# Altium integrated library Maxim Digital Potentiometers.IntLib: 1045 symbols (part 20 of 42)
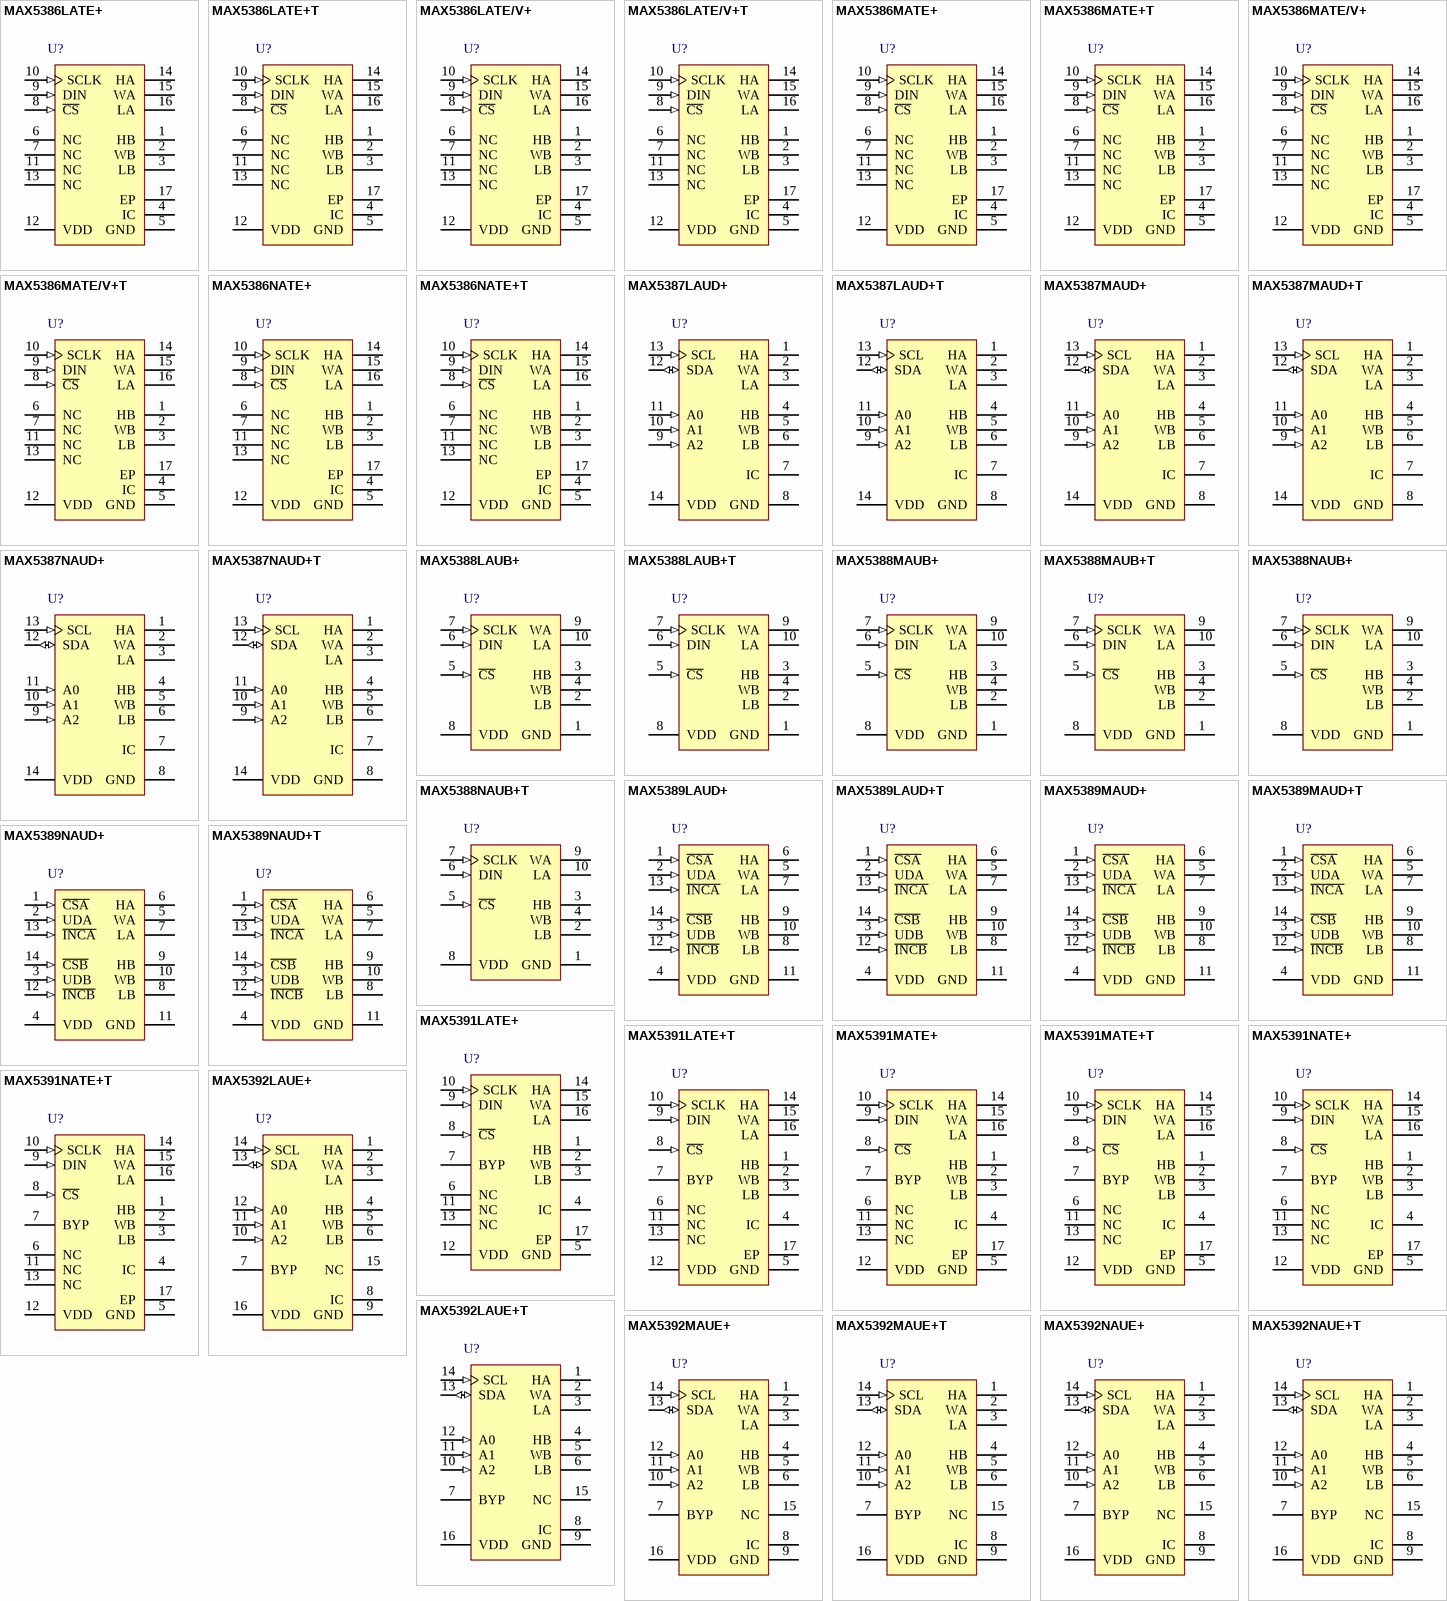
[diagram p48: symbols MAX5386LATE+ to MAX5392NAUE+T]

## MAX5389NAUD+T
designator U?
Dual, Digital Potentiometer with Up/Down Control Interface, Volatile, Linear Taper, 256 Steps, -40 to 125 degC, 14-pin TSSOP (U14+1), Pb-Free, Tape and Reel; PartNumber: MAX5389NAUD+T; DatasheetVersion: Rev. 2; PackageVersion: Rev. L, 07/2010; PackageReference: U14+1; PackageDescription: 14-Pin Thin Shrink Small-Outline Package (U14+1), Body 5 x 4.4 mm, Pitch 0.65 mm; Supplier 1: Digi-Key; Supplier Part Number 1: MAX5389NAUD+T-ND; Supplier 2: Mouser; Supplier Part Number 2: 700-MAX5389NAUD+T; Applications: Low-Voltage Battery Applications, Portable Consumer; Control Interface: Up/Down; Mounting Technology: Surface Mount; Code_JEDEC: MO-153; ComponentLink1Description: Manufacturer URL; ComponentLink1URL: http://www.maximintegrated.com/; ComponentLink2Description: Datasheet; ComponentLink2URL: http://datasheets.maximintegrated.com/en/ds/MAX5389.pdf; ComponentLink3Description: Package Specification; ComponentLink3URL: http://pdfserv.maximintegrated.com/package_dwgs/21-0066.PDF
footprint MAXM-U14+1_N (SOP, 14-Leads, Body 5x4.4mm, Pitch 0.65mm, IPC Medium Density)
footprint MAXM-U14+1_L (SOP, 14-Leads, Body 5x4.4mm, Pitch 0.65mm, IPC High Density)
footprint MAXM-U14+1_M (SOP, 14-Leads, Body 5x4.4mm, Pitch 0.65mm, IPC Low Density)
pins: 1 ~{CSA} (in) "Active-Low Register A Chip-Select Input. Drive C\S\A\ low to change wiper position WA through I\N\C\A\ and UDA.", 2 UDA (in) "Register A Up/Down Control Input. With UDA low, a high-to-low transition at I\N\C\A\ decrements the WA position towards LA. With UDA high, a high-to-low transition at I\N\C\A\ increments WA position toward HA", 3 UDB (in) "Register B Up/Down Control Input. With UDB low, a high-to-low transition at I\N\C\B\ decrements the WB position towards LB. With UDB high, a high-to-low transition at I\N\C\B\ increments WB position toward HB.", 4 VDD (power) "Power-Supply Input. Bypass VDD to GND with a 0.1uF capacitor close to the device.", 5 WA "Resistor A Wiper Terminal", 6 HA "Resistor A High Terminal. The voltage at HA can be higher or lower than the voltage at LA. Current can flow into or out of HA.", 7 LA "Resistor A Low Terminal. The voltage at LA can be higher or lower than the voltage at HA. Current can flow into or out of LA.", 8 LB "Resistor B Low Terminal. The voltage at LB can be higher or lower than the voltage at HB. Current can flow into or out of LB", 9 HB "Resistor B High Terminal. The voltage at HB can be higher or lower than the voltage at LB. Current can flow into or out of HB.", 10 WB "Resistor B Wiper Terminal", 11 GND (power) "Ground", 12 ~{INCB} (in) "Register B Wiper Increment Control Input. With UDB low, a high-to-low transition at I\N\C\B\ decrements the WB position towards LB. With UDB high, a high-to-low transition at I\N\C\B\ increments WB position toward HB.", 13 ~{INCA} (in) "Register A Wiper Increment Control Input. With UDA low, a high-to-low transition at I\N\C\A\ decrements the WA position towards LA. With UDA high, a high-to-low transition at I\N\C\A\ increments WA position toward HA.", 14 ~{CSB} (in) "Active-Low Register B Chip-Select Input. Drive C\S\B\ low to change wiper position WA through I\N\C\B\ and UDB."

## MAX5391LATE+
designator U?
Dual, Low-Voltage Linear Taper Digital Potentiometer with 3-Wire Serial SPI Control Interface, Volatile, Linear Taper, 256 Steps, -40 to 125 degC, 16-pin TQFN (T1633+5), Pb-Free; PartNumber: MAX5391LATE+; DatasheetVersion: Rev. 2; PackageVersion: Rev. L, 04/2012; PackageReference: T1633+5; PackageDescription: 16-Pin Thin Quad Flatpack, No Leads (T1633+5), Body 3 x 3 mm, Pitch 0.5 mm; Supplier 1: Digi-Key; Supplier Part Number 1: MAX5391LATE+-ND; Supplier 2: Farnell; Supplier Part Number 2: 1811333; Supplier 3: Mouser; Supplier Part Number 3: 700-MAX5391LATE+; Applications: Low-Voltage Battery Applications, Portable Consumer; Control Interface: 3-Wire Serial SPI; Mounting Technology: Surface Mount; Code_JEDEC: MO220; ComponentLink1Description: Manufacturer URL; ComponentLink1URL: http://www.maximintegrated.com/; ComponentLink2Description: Datasheet; ComponentLink2URL: http://datasheets.maximintegrated.com/en/ds/MAX5391-MAX5393.pdf; ComponentLink3Description: Package Specification; ComponentLink3URL: http://pdfserv.maximintegrated.com/package_dwgs/21-0136.PDF
footprint MAXM-T1633+5_N (QFN, 16-Leads, Body 3x3mm, Pitch 0.5mm, Thermal Pad 1.1x1.1mm, IPC Medium Density)
footprint MAXM-T1633+5_L (QFN, 16-Leads, Body 3x3mm, Pitch 0.5mm, Thermal Pad 1.1x1.1mm, IPC High Density)
footprint MAXM-T1633+5_M (QFN, 16-Leads, Body 3x3mm, Pitch 0.5mm, Thermal Pad 1.1x1.1mm, IPC Low Density)
pins: 1 HB "Resistor B High Terminal. The voltage at HB can be higher or lower than the voltage at LB. Current can flow into or out of HB.", 2 WB "Resistor B Wiper Terminal", 3 LB "Resistor B Low Terminal. The voltage at LB can be higher or lower than the voltage at HB.Current can flow into or out of LB.", 4 IC (power) "Internally Connected. Connect to GND.", 5 GND (power) "Ground", 6 NC "No Connection. Not internally connected.", 7 BYP "Internal Power-Supply Bypass. For additional charge-pump filtering, bypass to GND with a capacitor close to the device.", 8 ~{CS} (in) "Active-Low Chip-Select Input", 9 DIN (in) "Serial-Interface Data Input", 10 SCLK (in) "Serial-Interface Clock Input", 11 NC "No Connection. Not internally connected.", 12 VDD (power) "Power-Supply Input. Bypass VDD to GND with a 0.1FF capacitor close to the device.", 13 NC "No Connection. Not internally connected.", 14 HA "Resistor A High Terminal. The voltage at HA can be higher or lower than the voltage at LA. Current can flow into or out of HA.", 15 WA "Resistor A Wiper Terminal", 16 LA "Resistor A Low Terminal. The voltage at LA can be higher or lower than the voltage at HA. Current can flow into or out of LA.", 17 EP (power) "Exposed Pad. Connect to GND."

## MAX5391LATE+T
designator U?
Dual Low-Voltage Linear Taper Digital Potentiometer with 3-Wire Serial SPI Control Interface, Volatile, Linear Taper, 256 Steps, -40 to 125 degC, 16-pin TQFN (T1633+5), Pb-Free, Tape and Reel; PartNumber: MAX5391LATE+T; DatasheetVersion: Rev. 2; PackageVersion: Rev. L, 04/2012; PackageReference: T1633+5; PackageDescription: 16-Pin Thin Quad Flatpack, No Leads (T1633+5), Body 3 x 3 mm, Pitch 0.5 mm; Supplier 1: Digi-Key; Supplier Part Number 1: MAX5391LATE+TTR-ND; Supplier 2: Digi-Key; Supplier Part Number 2: MAX5391LATE+TCT-ND; Supplier 3: Digi-Key; Supplier Part Number 3: MAX5391LATE+TDKR-ND; Supplier 4: Newark; Supplier Part Number 4: 69R7364; Supplier 5: Mouser; Supplier Part Number 5: 700-MAX5391LATE+T; Applications: Low-Voltage Battery Applications, Portable Consumer; Control Interface: 3-Wire Serial SPI; Mounting Technology: Surface Mount; Code_JEDEC: MO220; ComponentLink1Description: Manufacturer URL; ComponentLink1URL: http://www.maximintegrated.com/; ComponentLink2Description: Datasheet; ComponentLink2URL: http://datasheets.maximintegrated.com/en/ds/MAX5391-MAX5393.pdf; ComponentLink3Description: Package Specification; ComponentLink3URL: http://pdfserv.maximintegrated.com/package_dwgs/21-0136.PDF
footprint MAXM-T1633+5_N (QFN, 16-Leads, Body 3x3mm, Pitch 0.5mm, Thermal Pad 1.1x1.1mm, IPC Medium Density)
footprint MAXM-T1633+5_L (QFN, 16-Leads, Body 3x3mm, Pitch 0.5mm, Thermal Pad 1.1x1.1mm, IPC High Density)
footprint MAXM-T1633+5_M (QFN, 16-Leads, Body 3x3mm, Pitch 0.5mm, Thermal Pad 1.1x1.1mm, IPC Low Density)
pins: 1 HB "Resistor B High Terminal. The voltage at HB can be higher or lower than the voltage at LB. Current can flow into or out of HB.", 2 WB "Resistor B Wiper Terminal", 3 LB "Resistor B Low Terminal. The voltage at LB can be higher or lower than the voltage at HB.Current can flow into or out of LB.", 4 IC (power) "Internally Connected. Connect to GND.", 5 GND (power) "Ground", 6 NC "No Connection. Not internally connected.", 7 BYP "Internal Power-Supply Bypass. For additional charge-pump filtering, bypass to GND with a capacitor close to the device.", 8 ~{CS} (in) "Active-Low Chip-Select Input", 9 DIN (in) "Serial-Interface Data Input", 10 SCLK (in) "Serial-Interface Clock Input", 11 NC "No Connection. Not internally connected.", 12 VDD (power) "Power-Supply Input. Bypass VDD to GND with a 0.1FF capacitor close to the device.", 13 NC "No Connection. Not internally connected.", 14 HA "Resistor A High Terminal. The voltage at HA can be higher or lower than the voltage at LA. Current can flow into or out of HA.", 15 WA "Resistor A Wiper Terminal", 16 LA "Resistor A Low Terminal. The voltage at LA can be higher or lower than the voltage at HA. Current can flow into or out of LA.", 17 EP (power) "Exposed Pad. Connect to GND."

## MAX5391MATE+
designator U?
Dual Low-Voltage Linear Taper Digital Potentiometer with 3-Wire Serial SPI Control Interface, Volatile, Linear Taper, 256 Steps, -40 to 125 degC, 16-pin TQFN (T1633+5), Pb-Free; PartNumber: MAX5391MATE+; DatasheetVersion: Rev. 2; PackageVersion: Rev. L, 04/2012; PackageReference: T1633+5; PackageDescription: 16-Pin Thin Quad Flatpack, No Leads (T1633+5), Body 3 x 3 mm, Pitch 0.5 mm; Supplier 1: Digi-Key; Supplier Part Number 1: MAX5391MATE+-ND; Supplier 2: Farnell; Supplier Part Number 2: 1811334; Supplier 3: Mouser; Supplier Part Number 3: 700-MAX5391MATE+; Applications: Low-Voltage Battery Applications, Portable Consumer; Control Interface: 3-Wire Serial SPI; Mounting Technology: Surface Mount; Code_JEDEC: MO220; ComponentLink1Description: Manufacturer URL; ComponentLink1URL: http://www.maximintegrated.com/; ComponentLink2Description: Datasheet; ComponentLink2URL: http://datasheets.maximintegrated.com/en/ds/MAX5391-MAX5393.pdf; ComponentLink3Description: Package Specification; ComponentLink3URL: http://pdfserv.maximintegrated.com/package_dwgs/21-0136.PDF
footprint MAXM-T1633+5_N (QFN, 16-Leads, Body 3x3mm, Pitch 0.5mm, Thermal Pad 1.1x1.1mm, IPC Medium Density)
footprint MAXM-T1633+5_L (QFN, 16-Leads, Body 3x3mm, Pitch 0.5mm, Thermal Pad 1.1x1.1mm, IPC High Density)
footprint MAXM-T1633+5_M (QFN, 16-Leads, Body 3x3mm, Pitch 0.5mm, Thermal Pad 1.1x1.1mm, IPC Low Density)
pins: 1 HB "Resistor B High Terminal. The voltage at HB can be higher or lower than the voltage at LB. Current can flow into or out of HB.", 2 WB "Resistor B Wiper Terminal", 3 LB "Resistor B Low Terminal. The voltage at LB can be higher or lower than the voltage at HB.Current can flow into or out of LB.", 4 IC (power) "Internally Connected. Connect to GND.", 5 GND (power) "Ground", 6 NC "No Connection. Not internally connected.", 7 BYP "Internal Power-Supply Bypass. For additional charge-pump filtering, bypass to GND with a capacitor close to the device.", 8 ~{CS} (in) "Active-Low Chip-Select Input", 9 DIN (in) "Serial-Interface Data Input", 10 SCLK (in) "Serial-Interface Clock Input", 11 NC "No Connection. Not internally connected.", 12 VDD (power) "Power-Supply Input. Bypass VDD to GND with a 0.1FF capacitor close to the device.", 13 NC "No Connection. Not internally connected.", 14 HA "Resistor A High Terminal. The voltage at HA can be higher or lower than the voltage at LA. Current can flow into or out of HA.", 15 WA "Resistor A Wiper Terminal", 16 LA "Resistor A Low Terminal. The voltage at LA can be higher or lower than the voltage at HA. Current can flow into or out of LA.", 17 EP (power) "Exposed Pad. Connect to GND."

## MAX5391MATE+T
designator U?
Dual Low-Voltage Linear Taper Digital Potentiometer with 3-Wire Serial SPI Control Interface, Volatile, Linear Taper, 256 Steps, -40 to 125 degC, 16-pin TQFN (T1633+5), Pb-Free, Tape and Reel; PartNumber: MAX5391MATE+T; DatasheetVersion: Rev. 2; PackageVersion: Rev. L, 04/2012; PackageReference: T1633+5; PackageDescription: 16-Pin Thin Quad Flatpack, No Leads (T1633+5), Body 3 x 3 mm, Pitch 0.5 mm; Supplier 1: Digi-Key; Supplier Part Number 1: MAX5391MATE+TTR-ND; Supplier 2: Digi-Key; Supplier Part Number 2: MAX5391MATE+TCT-ND; Supplier 3: Digi-Key; Supplier Part Number 3: MAX5391MATE+TDKR-ND; Supplier 4: Newark; Supplier Part Number 4: 69R7365; Supplier 5: Mouser; Supplier Part Number 5: 700-MAX5391MATE+T; Applications: Low-Voltage Battery Applications, Portable Consumer; Control Interface: 3-Wire Serial SPI; Mounting Technology: Surface Mount; Code_JEDEC: MO220; ComponentLink1Description: Manufacturer URL; ComponentLink1URL: http://www.maximintegrated.com/; ComponentLink2Description: Datasheet; ComponentLink2URL: http://datasheets.maximintegrated.com/en/ds/MAX5391-MAX5393.pdf; ComponentLink3Description: Package Specification; ComponentLink3URL: http://pdfserv.maximintegrated.com/package_dwgs/21-0136.PDF
footprint MAXM-T1633+5_N (QFN, 16-Leads, Body 3x3mm, Pitch 0.5mm, Thermal Pad 1.1x1.1mm, IPC Medium Density)
footprint MAXM-T1633+5_L (QFN, 16-Leads, Body 3x3mm, Pitch 0.5mm, Thermal Pad 1.1x1.1mm, IPC High Density)
footprint MAXM-T1633+5_M (QFN, 16-Leads, Body 3x3mm, Pitch 0.5mm, Thermal Pad 1.1x1.1mm, IPC Low Density)
pins: 1 HB "Resistor B High Terminal. The voltage at HB can be higher or lower than the voltage at LB. Current can flow into or out of HB.", 2 WB "Resistor B Wiper Terminal", 3 LB "Resistor B Low Terminal. The voltage at LB can be higher or lower than the voltage at HB.Current can flow into or out of LB.", 4 IC (power) "Internally Connected. Connect to GND.", 5 GND (power) "Ground", 6 NC "No Connection. Not internally connected.", 7 BYP "Internal Power-Supply Bypass. For additional charge-pump filtering, bypass to GND with a capacitor close to the device.", 8 ~{CS} (in) "Active-Low Chip-Select Input", 9 DIN (in) "Serial-Interface Data Input", 10 SCLK (in) "Serial-Interface Clock Input", 11 NC "No Connection. Not internally connected.", 12 VDD (power) "Power-Supply Input. Bypass VDD to GND with a 0.1FF capacitor close to the device.", 13 NC "No Connection. Not internally connected.", 14 HA "Resistor A High Terminal. The voltage at HA can be higher or lower than the voltage at LA. Current can flow into or out of HA.", 15 WA "Resistor A Wiper Terminal", 16 LA "Resistor A Low Terminal. The voltage at LA can be higher or lower than the voltage at HA. Current can flow into or out of LA.", 17 EP (power) "Exposed Pad. Connect to GND."

## MAX5391NATE+
designator U?
Dual Low-Voltage Linear Taper Digital Potentiometer with 3-Wire Serial SPI Control Interface, Volatile, Linear Taper, 256 Steps, -40 to 125 degC, 16-pin TQFN (T1633+5), Pb-Free; PartNumber: MAX5391NATE+; DatasheetVersion: Rev. 2; PackageVersion: Rev. L, 04/2012; PackageReference: T1633+5; PackageDescription: 16-Pin Thin Quad Flatpack, No Leads (T1633+5), Body 3 x 3 mm, Pitch 0.5 mm; Supplier 1: Digi-Key; Supplier Part Number 1: MAX5391NATE+-ND; Supplier 2: Farnell; Supplier Part Number 2: 1811335; Supplier 3: Mouser; Supplier Part Number 3: 700-MAX5391NATE+; Applications: Low-Voltage Battery Applications, Portable Consumer; Control Interface: 3-Wire Serial SPI; Mounting Technology: Surface Mount; Code_JEDEC: MO220; ComponentLink1Description: Manufacturer URL; ComponentLink1URL: http://www.maximintegrated.com/; ComponentLink2Description: Datasheet; ComponentLink2URL: http://datasheets.maximintegrated.com/en/ds/MAX5391-MAX5393.pdf; ComponentLink3Description: Package Specification; ComponentLink3URL: http://pdfserv.maximintegrated.com/package_dwgs/21-0136.PDF
footprint MAXM-T1633+5_N (QFN, 16-Leads, Body 3x3mm, Pitch 0.5mm, Thermal Pad 1.1x1.1mm, IPC Medium Density)
footprint MAXM-T1633+5_L (QFN, 16-Leads, Body 3x3mm, Pitch 0.5mm, Thermal Pad 1.1x1.1mm, IPC High Density)
footprint MAXM-T1633+5_M (QFN, 16-Leads, Body 3x3mm, Pitch 0.5mm, Thermal Pad 1.1x1.1mm, IPC Low Density)
pins: 1 HB "Resistor B High Terminal. The voltage at HB can be higher or lower than the voltage at LB. Current can flow into or out of HB.", 2 WB "Resistor B Wiper Terminal", 3 LB "Resistor B Low Terminal. The voltage at LB can be higher or lower than the voltage at HB.Current can flow into or out of LB.", 4 IC (power) "Internally Connected. Connect to GND.", 5 GND (power) "Ground", 6 NC "No Connection. Not internally connected.", 7 BYP "Internal Power-Supply Bypass. For additional charge-pump filtering, bypass to GND with a capacitor close to the device.", 8 ~{CS} (in) "Active-Low Chip-Select Input", 9 DIN (in) "Serial-Interface Data Input", 10 SCLK (in) "Serial-Interface Clock Input", 11 NC "No Connection. Not internally connected.", 12 VDD (power) "Power-Supply Input. Bypass VDD to GND with a 0.1FF capacitor close to the device.", 13 NC "No Connection. Not internally connected.", 14 HA "Resistor A High Terminal. The voltage at HA can be higher or lower than the voltage at LA. Current can flow into or out of HA.", 15 WA "Resistor A Wiper Terminal", 16 LA "Resistor A Low Terminal. The voltage at LA can be higher or lower than the voltage at HA. Current can flow into or out of LA.", 17 EP (power) "Exposed Pad. Connect to GND."

## MAX5391NATE+T
designator U?
Dual Low-Voltage Linear Taper Digital Potentiometer with 3-Wire Serial SPI Control Interface, Volatile, Linear Taper, 256 Steps, -40 to 125 degC, 16-pin TQFN (T1633+5), Pb-Free, Tape and Reel; PartNumber: MAX5391NATE+T; DatasheetVersion: Rev. 2; PackageVersion: Rev. L, 04/2012; PackageReference: T1633+5; PackageDescription: 16-Pin Thin Quad Flatpack, No Leads (T1633+5), Body 3 x 3 mm, Pitch 0.5 mm; Supplier 1: Digi-Key; Supplier Part Number 1: MAX5391NATE+TTR-ND; Supplier 2: Digi-Key; Supplier Part Number 2: MAX5391NATE+TCT-ND; Supplier 3: Digi-Key; Supplier Part Number 3: MAX5391NATE+TDKR-ND; Supplier 4: Mouser; Supplier Part Number 4: 700-MAX5391NATE+T; Applications: Low-Voltage Battery Applications, Portable Consumer; Control Interface: 3-Wire Serial SPI; Mounting Technology: Surface Mount; Code_JEDEC: MO220; ComponentLink1Description: Manufacturer URL; ComponentLink1URL: http://www.maximintegrated.com/; ComponentLink2Description: Datasheet; ComponentLink2URL: http://datasheets.maximintegrated.com/en/ds/MAX5391-MAX5393.pdf; ComponentLink3Description: Package Specification; ComponentLink3URL: http://pdfserv.maximintegrated.com/package_dwgs/21-0136.PDF
footprint MAXM-T1633+5_N (QFN, 16-Leads, Body 3x3mm, Pitch 0.5mm, Thermal Pad 1.1x1.1mm, IPC Medium Density)
footprint MAXM-T1633+5_L (QFN, 16-Leads, Body 3x3mm, Pitch 0.5mm, Thermal Pad 1.1x1.1mm, IPC High Density)
footprint MAXM-T1633+5_M (QFN, 16-Leads, Body 3x3mm, Pitch 0.5mm, Thermal Pad 1.1x1.1mm, IPC Low Density)
pins: 1 HB "Resistor B High Terminal. The voltage at HB can be higher or lower than the voltage at LB. Current can flow into or out of HB.", 2 WB "Resistor B Wiper Terminal", 3 LB "Resistor B Low Terminal. The voltage at LB can be higher or lower than the voltage at HB.Current can flow into or out of LB.", 4 IC (power) "Internally Connected. Connect to GND.", 5 GND (power) "Ground", 6 NC "No Connection. Not internally connected.", 7 BYP "Internal Power-Supply Bypass. For additional charge-pump filtering, bypass to GND with a capacitor close to the device.", 8 ~{CS} (in) "Active-Low Chip-Select Input", 9 DIN (in) "Serial-Interface Data Input", 10 SCLK (in) "Serial-Interface Clock Input", 11 NC "No Connection. Not internally connected.", 12 VDD (power) "Power-Supply Input. Bypass VDD to GND with a 0.1FF capacitor close to the device.", 13 NC "No Connection. Not internally connected.", 14 HA "Resistor A High Terminal. The voltage at HA can be higher or lower than the voltage at LA. Current can flow into or out of HA.", 15 WA "Resistor A Wiper Terminal", 16 LA "Resistor A Low Terminal. The voltage at LA can be higher or lower than the voltage at HA. Current can flow into or out of LA.", 17 EP (power) "Exposed Pad. Connect to GND."

## MAX5392LAUE+
designator U?
Dual, Low-Voltage Digital Potentiometer with I2C Control Interface, Volatile, Linear Taper, 256 Steps, -40 to 125 degC, 16-pin TSSOP (U16+2), Pb-Free; PartNumber: MAX5392LAUE+; DatasheetVersion: Rev. 2; PackageVersion: Rev. L, 07/2010; PackageReference: U16+2; PackageDescription: 16-Pin Thin Shrink Small-Outline Package (U16+2), Body 5 x 4.4 mm, Pitch 0.65 mm; Supplier 1: Digi-Key; Supplier Part Number 1: MAX5392LAUE+-ND; Supplier 2: Farnell; Supplier Part Number 2: 1811336; Supplier 3: Newark; Supplier Part Number 3: 64R0241; Supplier 4: Mouser; Supplier Part Number 4: 700-MAX5392LAUE+; Applications: Low-Voltage Battery Applications, Portable Consumer; Control Interface: I2C; Mounting Technology: Surface Mount; Code_JEDEC: MO-153; ComponentLink1Description: Manufacturer URL; ComponentLink1URL: http://www.maximintegrated.com/; ComponentLink2Description: Datasheet; ComponentLink2URL: http://datasheets.maximintegrated.com/en/ds/MAX5392.pdf; ComponentLink3Description: Package Specification; ComponentLink3URL: http://pdfserv.maximintegrated.com/package_dwgs/21-0066.PDF
footprint MAXM-U16+2_N (SOP, 16-Leads, Body 5x4.4mm, Pitch 0.65mm, IPC Medium Density)
footprint MAXM-U16+2_L (SOP, 16-Leads, Body 5x4.4mm, Pitch 0.65mm, IPC High Density)
footprint MAXM-U16+2_M (SOP, 16-Leads, Body 5x4.4mm, Pitch 0.65mm, IPC Low Density)
pins: 1 HA "Resistor A High Terminal. The voltage at HA can be higher or lower than the voltage at LA. Current can flow into or out of HA.", 2 WA "Resistor A Wiper Terminal", 3 LA "Resistor A Low Terminal. The voltage at LA can be higher or lower than the voltage at HA. Current can flow into or out of LA.", 4 HB "Resistor B High Terminal. The voltage at HB can be higher or lower than the voltage at LB. Current can flow into or out of HB.", 5 WB "Resistor B Wiper Terminal", 6 LB "Resistor B Low Terminal. The voltage at LB can be higher or lower than the voltage at HB. Current can flow into or out of LB.", 7 BYP "Internal Power-Supply Bypass. For additional charge-pump filtering, bypass to GND with a capacitor close to the device.", 8 IC (power) "Internally Connected. Connect to GND.", 9 GND (power) "Ground", 10 A2 (in) "Address Input 2. Connect to VDD or GND.", 11 A1 (in) "Address Input 1. Connect to VDD or GND.", 12 A0 (in) "Address Input 0. Connect to VDD or GND.", 13 SDA (io) "I2C-Compatible Serial-Data Input/Output. A pullup resistor is required.", 14 SCL (in) "I2C-Compatible Serial-Clock Input. A pullup resistor is required.", 15 NC "No Connection. Not internally connected.", 16 VDD (power) "Power-Supply Input. Bypass VDD to GND with a 0.1uF capacitor close to the device."

## MAX5392LAUE+T
designator U?
Dual, Low-Voltage Digital Potentiometer with I2C Control Interface, Volatile, Linear Taper, 256 Steps, -40 to 125 degC, 16-pin TSSOP (U16+2), Pb-Free, Tape and Reel; PartNumber: MAX5392LAUE+T; DatasheetVersion: Rev. 2; PackageVersion: Rev. L, 07/2010; PackageReference: U16+2; PackageDescription: 16-Pin Thin Shrink Small-Outline Package (U16+2), Body 5 x 4.4 mm, Pitch 0.65 mm; Supplier 1: Digi-Key; Supplier Part Number 1: MAX5392LAUE+T-ND; Supplier 2: Mouser; Supplier Part Number 2: 700-MAX5392LAUE+T; Applications: Low-Voltage Battery Applications, Portable Consumer; Control Interface: I2C; Mounting Technology: Surface Mount; Code_JEDEC: MO-153; ComponentLink1Description: Manufacturer URL; ComponentLink1URL: http://www.maximintegrated.com/; ComponentLink2Description: Datasheet; ComponentLink2URL: http://datasheets.maximintegrated.com/en/ds/MAX5392.pdf; ComponentLink3Description: Package Specification; ComponentLink3URL: http://pdfserv.maximintegrated.com/package_dwgs/21-0066.PDF
footprint MAXM-U16+2_N (SOP, 16-Leads, Body 5x4.4mm, Pitch 0.65mm, IPC Medium Density)
footprint MAXM-U16+2_L (SOP, 16-Leads, Body 5x4.4mm, Pitch 0.65mm, IPC High Density)
footprint MAXM-U16+2_M (SOP, 16-Leads, Body 5x4.4mm, Pitch 0.65mm, IPC Low Density)
pins: 1 HA "Resistor A High Terminal. The voltage at HA can be higher or lower than the voltage at LA. Current can flow into or out of HA.", 2 WA "Resistor A Wiper Terminal", 3 LA "Resistor A Low Terminal. The voltage at LA can be higher or lower than the voltage at HA. Current can flow into or out of LA.", 4 HB "Resistor B High Terminal. The voltage at HB can be higher or lower than the voltage at LB. Current can flow into or out of HB.", 5 WB "Resistor B Wiper Terminal", 6 LB "Resistor B Low Terminal. The voltage at LB can be higher or lower than the voltage at HB. Current can flow into or out of LB.", 7 BYP "Internal Power-Supply Bypass. For additional charge-pump filtering, bypass to GND with a capacitor close to the device.", 8 IC (power) "Internally Connected. Connect to GND.", 9 GND (power) "Ground", 10 A2 (in) "Address Input 2. Connect to VDD or GND.", 11 A1 (in) "Address Input 1. Connect to VDD or GND.", 12 A0 (in) "Address Input 0. Connect to VDD or GND.", 13 SDA (io) "I2C-Compatible Serial-Data Input/Output. A pullup resistor is required.", 14 SCL (in) "I2C-Compatible Serial-Clock Input. A pullup resistor is required.", 15 NC "No Connection. Not internally connected.", 16 VDD (power) "Power-Supply Input. Bypass VDD to GND with a 0.1uF capacitor close to the device."

## MAX5392MAUE+
designator U?
Dual, Low-Voltage Digital Potentiometer with I2C Control Interface, Volatile, Linear Taper, 256 Steps, -40 to 125 degC, 16-pin TSSOP (U16+2), Pb-Free; PartNumber: MAX5392MAUE+; DatasheetVersion: Rev. 2; PackageVersion: Rev. L, 07/2010; PackageReference: U16+2; PackageDescription: 16-Pin Thin Shrink Small-Outline Package (U16+2), Body 5 x 4.4 mm, Pitch 0.65 mm; Supplier 1: Digi-Key; Supplier Part Number 1: MAX5392MAUE+-ND; Supplier 2: Farnell; Supplier Part Number 2: 1811337; Supplier 3: Newark; Supplier Part Number 3: 64R0243; Supplier 4: Mouser; Supplier Part Number 4: 700-MAX5392MAUE+; Applications: Low-Voltage Battery Applications, Portable Consumer; Control Interface: I2C; Mounting Technology: Surface Mount; Code_JEDEC: MO-153; ComponentLink1Description: Manufacturer URL; ComponentLink1URL: http://www.maximintegrated.com/; ComponentLink2Description: Datasheet; ComponentLink2URL: http://datasheets.maximintegrated.com/en/ds/MAX5392.pdf; ComponentLink3Description: Package Specification; ComponentLink3URL: http://pdfserv.maximintegrated.com/package_dwgs/21-0066.PDF
footprint MAXM-U16+2_N (SOP, 16-Leads, Body 5x4.4mm, Pitch 0.65mm, IPC Medium Density)
footprint MAXM-U16+2_L (SOP, 16-Leads, Body 5x4.4mm, Pitch 0.65mm, IPC High Density)
footprint MAXM-U16+2_M (SOP, 16-Leads, Body 5x4.4mm, Pitch 0.65mm, IPC Low Density)
pins: 1 HA "Resistor A High Terminal. The voltage at HA can be higher or lower than the voltage at LA. Current can flow into or out of HA.", 2 WA "Resistor A Wiper Terminal", 3 LA "Resistor A Low Terminal. The voltage at LA can be higher or lower than the voltage at HA. Current can flow into or out of LA.", 4 HB "Resistor B High Terminal. The voltage at HB can be higher or lower than the voltage at LB. Current can flow into or out of HB.", 5 WB "Resistor B Wiper Terminal", 6 LB "Resistor B Low Terminal. The voltage at LB can be higher or lower than the voltage at HB. Current can flow into or out of LB.", 7 BYP "Internal Power-Supply Bypass. For additional charge-pump filtering, bypass to GND with a capacitor close to the device.", 8 IC (power) "Internally Connected. Connect to GND.", 9 GND (power) "Ground", 10 A2 (in) "Address Input 2. Connect to VDD or GND.", 11 A1 (in) "Address Input 1. Connect to VDD or GND.", 12 A0 (in) "Address Input 0. Connect to VDD or GND.", 13 SDA (io) "I2C-Compatible Serial-Data Input/Output. A pullup resistor is required.", 14 SCL (in) "I2C-Compatible Serial-Clock Input. A pullup resistor is required.", 15 NC "No Connection. Not internally connected.", 16 VDD (power) "Power-Supply Input. Bypass VDD to GND with a 0.1uF capacitor close to the device."

## MAX5392MAUE+T
designator U?
Dual, Low-Voltage Digital Potentiometer with I2C Control Interface, Volatile, Linear Taper, 256 Steps, -40 to 125 degC, 16-pin TSSOP (U16+2), Pb-Free, Tape and Reel; PartNumber: MAX5392MAUE+T; DatasheetVersion: Rev. 2; PackageVersion: Rev. L, 07/2010; PackageReference: U16+2; PackageDescription: 16-Pin Thin Shrink Small-Outline Package (U16+2), Body 5 x 4.4 mm, Pitch 0.65 mm; Supplier 1: Digi-Key; Supplier Part Number 1: MAX5392MAUE+T-ND; Supplier 2: Mouser; Supplier Part Number 2: 700-MAX5392MAUE+T; Applications: Low-Voltage Battery Applications, Portable Consumer; Control Interface: I2C; Mounting Technology: Surface Mount; Code_JEDEC: MO-153; ComponentLink1Description: Manufacturer URL; ComponentLink1URL: http://www.maximintegrated.com/; ComponentLink2Description: Datasheet; ComponentLink2URL: http://datasheets.maximintegrated.com/en/ds/MAX5392.pdf; ComponentLink3Description: Package Specification; ComponentLink3URL: http://pdfserv.maximintegrated.com/package_dwgs/21-0066.PDF
footprint MAXM-U16+2_N (SOP, 16-Leads, Body 5x4.4mm, Pitch 0.65mm, IPC Medium Density)
footprint MAXM-U16+2_L (SOP, 16-Leads, Body 5x4.4mm, Pitch 0.65mm, IPC High Density)
footprint MAXM-U16+2_M (SOP, 16-Leads, Body 5x4.4mm, Pitch 0.65mm, IPC Low Density)
pins: 1 HA "Resistor A High Terminal. The voltage at HA can be higher or lower than the voltage at LA. Current can flow into or out of HA.", 2 WA "Resistor A Wiper Terminal", 3 LA "Resistor A Low Terminal. The voltage at LA can be higher or lower than the voltage at HA. Current can flow into or out of LA.", 4 HB "Resistor B High Terminal. The voltage at HB can be higher or lower than the voltage at LB. Current can flow into or out of HB.", 5 WB "Resistor B Wiper Terminal", 6 LB "Resistor B Low Terminal. The voltage at LB can be higher or lower than the voltage at HB. Current can flow into or out of LB.", 7 BYP "Internal Power-Supply Bypass. For additional charge-pump filtering, bypass to GND with a capacitor close to the device.", 8 IC (power) "Internally Connected. Connect to GND.", 9 GND (power) "Ground", 10 A2 (in) "Address Input 2. Connect to VDD or GND.", 11 A1 (in) "Address Input 1. Connect to VDD or GND.", 12 A0 (in) "Address Input 0. Connect to VDD or GND.", 13 SDA (io) "I2C-Compatible Serial-Data Input/Output. A pullup resistor is required.", 14 SCL (in) "I2C-Compatible Serial-Clock Input. A pullup resistor is required.", 15 NC "No Connection. Not internally connected.", 16 VDD (power) "Power-Supply Input. Bypass VDD to GND with a 0.1uF capacitor close to the device."

## MAX5392NAUE+
designator U?
Dual, Low-Voltage Digital Potentiometer with I2C Control Interface, Volatile, Linear Taper, 256 Steps, -40 to 125 degC, 16-pin TSSOP (U16+2), Pb-Free; PartNumber: MAX5392NAUE+; DatasheetVersion: Rev. 2; PackageVersion: Rev. L, 07/2010; PackageReference: U16+2; PackageDescription: 16-Pin Thin Shrink Small-Outline Package (U16+2), Body 5 x 4.4 mm, Pitch 0.65 mm; Supplier 1: Digi-Key; Supplier Part Number 1: MAX5392NAUE+-ND; Supplier 2: Mouser; Supplier Part Number 2: 700-MAX5392NAUE+; Applications: Low-Voltage Battery Applications, Portable Consumer; Control Interface: I2C; Mounting Technology: Surface Mount; Code_JEDEC: MO-153; ComponentLink1Description: Manufacturer URL; ComponentLink1URL: http://www.maximintegrated.com/; ComponentLink2Description: Datasheet; ComponentLink2URL: http://datasheets.maximintegrated.com/en/ds/MAX5392.pdf; ComponentLink3Description: Package Specification; ComponentLink3URL: http://pdfserv.maximintegrated.com/package_dwgs/21-0066.PDF
footprint MAXM-U16+2_N (SOP, 16-Leads, Body 5x4.4mm, Pitch 0.65mm, IPC Medium Density)
footprint MAXM-U16+2_L (SOP, 16-Leads, Body 5x4.4mm, Pitch 0.65mm, IPC High Density)
footprint MAXM-U16+2_M (SOP, 16-Leads, Body 5x4.4mm, Pitch 0.65mm, IPC Low Density)
pins: 1 HA "Resistor A High Terminal. The voltage at HA can be higher or lower than the voltage at LA. Current can flow into or out of HA.", 2 WA "Resistor A Wiper Terminal", 3 LA "Resistor A Low Terminal. The voltage at LA can be higher or lower than the voltage at HA. Current can flow into or out of LA.", 4 HB "Resistor B High Terminal. The voltage at HB can be higher or lower than the voltage at LB. Current can flow into or out of HB.", 5 WB "Resistor B Wiper Terminal", 6 LB "Resistor B Low Terminal. The voltage at LB can be higher or lower than the voltage at HB. Current can flow into or out of LB.", 7 BYP "Internal Power-Supply Bypass. For additional charge-pump filtering, bypass to GND with a capacitor close to the device.", 8 IC (power) "Internally Connected. Connect to GND.", 9 GND (power) "Ground", 10 A2 (in) "Address Input 2. Connect to VDD or GND.", 11 A1 (in) "Address Input 1. Connect to VDD or GND.", 12 A0 (in) "Address Input 0. Connect to VDD or GND.", 13 SDA (io) "I2C-Compatible Serial-Data Input/Output. A pullup resistor is required.", 14 SCL (in) "I2C-Compatible Serial-Clock Input. A pullup resistor is required.", 15 NC "No Connection. Not internally connected.", 16 VDD (power) "Power-Supply Input. Bypass VDD to GND with a 0.1uF capacitor close to the device."

## MAX5392NAUE+T
designator U?
Dual, Low-Voltage Digital Potentiometer with I2C Control Interface, Volatile, Linear Taper, 256 Steps, -40 to 125 degC, 16-pin TSSOP (U16+2), Pb-Free, Tape and Reel; PartNumber: MAX5392NAUE+T; DatasheetVersion: Rev. 2; PackageVersion: Rev. L, 07/2010; PackageReference: U16+2; PackageDescription: 16-Pin Thin Shrink Small-Outline Package (U16+2), Body 5 x 4.4 mm, Pitch 0.65 mm; Supplier 1: Digi-Key; Supplier Part Number 1: MAX5392NAUE+T-ND; Supplier 2: Mouser; Supplier Part Number 2: 700-MAX5392NAUE+T; Applications: Low-Voltage Battery Applications, Portable Consumer; Control Interface: I2C; Mounting Technology: Surface Mount; Code_JEDEC: MO-153; ComponentLink1Description: Manufacturer URL; ComponentLink1URL: http://www.maximintegrated.com/; ComponentLink2Description: Datasheet; ComponentLink2URL: http://datasheets.maximintegrated.com/en/ds/MAX5392.pdf; ComponentLink3Description: Package Specification; ComponentLink3URL: http://pdfserv.maximintegrated.com/package_dwgs/21-0066.PDF
footprint MAXM-U16+2_N (SOP, 16-Leads, Body 5x4.4mm, Pitch 0.65mm, IPC Medium Density)
footprint MAXM-U16+2_L (SOP, 16-Leads, Body 5x4.4mm, Pitch 0.65mm, IPC High Density)
footprint MAXM-U16+2_M (SOP, 16-Leads, Body 5x4.4mm, Pitch 0.65mm, IPC Low Density)
pins: 1 HA "Resistor A High Terminal. The voltage at HA can be higher or lower than the voltage at LA. Current can flow into or out of HA.", 2 WA "Resistor A Wiper Terminal", 3 LA "Resistor A Low Terminal. The voltage at LA can be higher or lower than the voltage at HA. Current can flow into or out of LA.", 4 HB "Resistor B High Terminal. The voltage at HB can be higher or lower than the voltage at LB. Current can flow into or out of HB.", 5 WB "Resistor B Wiper Terminal", 6 LB "Resistor B Low Terminal. The voltage at LB can be higher or lower than the voltage at HB. Current can flow into or out of LB.", 7 BYP "Internal Power-Supply Bypass. For additional charge-pump filtering, bypass to GND with a capacitor close to the device.", 8 IC (power) "Internally Connected. Connect to GND.", 9 GND (power) "Ground", 10 A2 (in) "Address Input 2. Connect to VDD or GND.", 11 A1 (in) "Address Input 1. Connect to VDD or GND.", 12 A0 (in) "Address Input 0. Connect to VDD or GND.", 13 SDA (io) "I2C-Compatible Serial-Data Input/Output. A pullup resistor is required.", 14 SCL (in) "I2C-Compatible Serial-Clock Input. A pullup resistor is required.", 15 NC "No Connection. Not internally connected.", 16 VDD (power) "Power-Supply Input. Bypass VDD to GND with a 0.1uF capacitor close to the device."

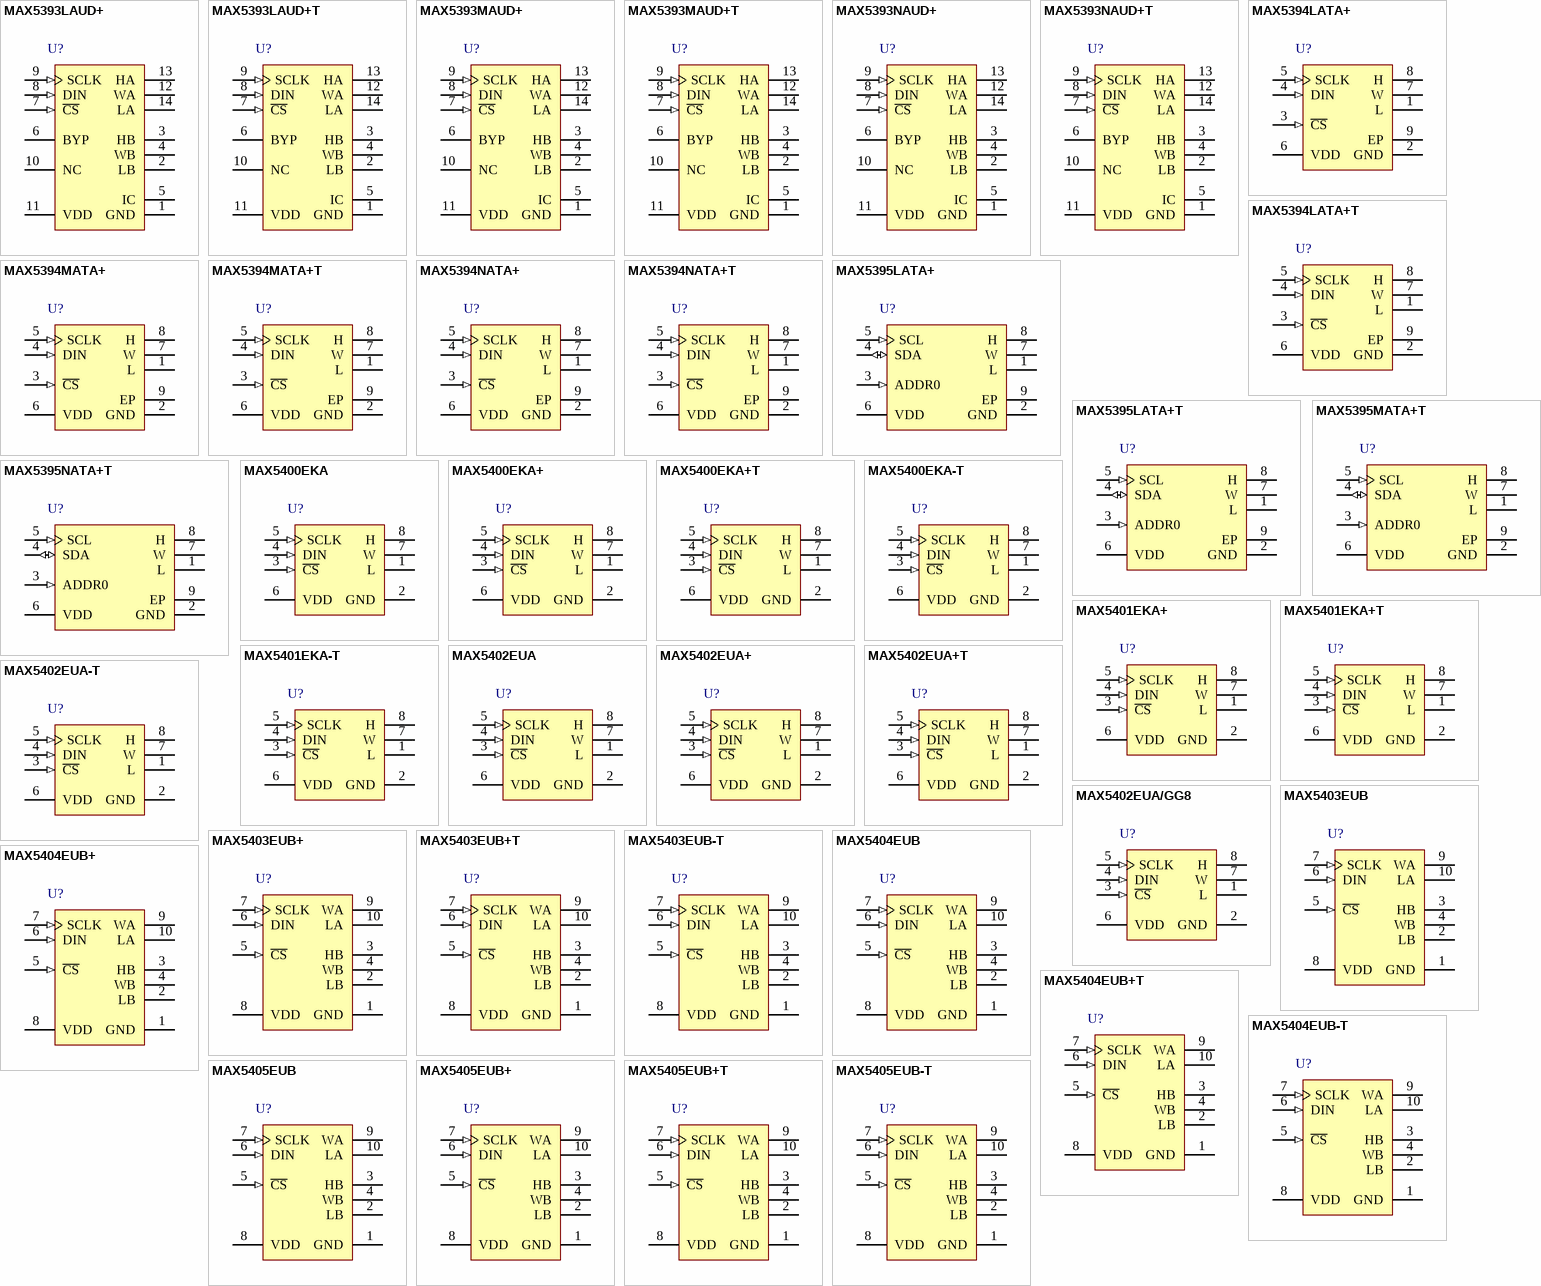
[diagram p14: symbols MAX5393LAUD+ to MAX5405EUB-T]

## MAX5393LAUD+
designator U?
Dual, Low-Voltage Digital Potentiometer with 3-Wire Serial SPI Control Interface, Volatile, Linear Taper, 256 Steps, -40 to 125 degC, 14-pin TSSOP (U14+1), Pb-Free; PartNumber: MAX5393LAUD+; DatasheetVersion: Rev. 2; PackageVersion: Rev. L, 07/2010; PackageReference: U14+1; PackageDescription: 14-Pin Thin Shrink Small-Outline Package (U14+1), Body 5 x 4.4 mm, Pitch 0.65 mm; Supplier 1: Digi-Key; Supplier Part Number 1: MAX5393LAUD+-ND; Supplier 2: Farnell; Supplier Part Number 2: 1811339; Supplier 3: Newark; Supplier Part Number 3: 60R4421; Supplier 4: Mouser; Supplier Part Number 4: 700-MAX5393LAUD+; Applications: Low-Voltage Battery Applications, Portable Consumer; Control Interface: 3-Wire Serial SPI; Mounting Technology: Surface Mount; Code_JEDEC: MO-153; ComponentLink1Description: Manufacturer URL; ComponentLink1URL: http://www.maximintegrated.com/; ComponentLink2Description: Datasheet; ComponentLink2URL: http://datasheets.maximintegrated.com/en/ds/MAX5391-MAX5393.pdf; ComponentLink3Description: Package Specification; ComponentLink3URL: http://pdfserv.maximintegrated.com/package_dwgs/21-0066.PDF
footprint MAXM-U14+1_N (SOP, 14-Leads, Body 5x4.4mm, Pitch 0.65mm, IPC Medium Density)
footprint MAXM-U14+1_L (SOP, 14-Leads, Body 5x4.4mm, Pitch 0.65mm, IPC High Density)
footprint MAXM-U14+1_M (SOP, 14-Leads, Body 5x4.4mm, Pitch 0.65mm, IPC Low Density)
pins: 1 GND (power) "Ground", 2 LB "Resistor B Low Terminal. The voltage at LB can be higher or lower than the voltage at HB. Current can flow into or out of LB.", 3 HB "Resistor B High Terminal. The voltage at HB can be higher or lower than the voltage at LB. Current can flow into or out of HB.", 4 WB "Resistor B Wiper Terminal", 5 IC (power) "Internally Connected. Connect to GND.", 6 BYP "Internal Power-Supply Bypass. For additional charge-pump filtering, bypass to GND with a capacitor close to the device.", 7 ~{CS} (in) "Active-Low Chip-Select Input", 8 DIN (in) "Serial-Interface Data Input", 9 SCLK (in) "Serial-Interface Clock Input", 10 NC "No Connection. Not internally connected.", 11 VDD (power) "Power-Supply Input. Bypass VDD to GND with a 0.1uF capacitor close to the device.", 12 WA "Resistor A Wiper Terminal", 13 HA "Resistor A High Terminal. The voltage at HA can be higher or lower than the voltage at LA. Current can flow into or out of HA.", 14 LA "Resistor A Low Terminal. The voltage at LA can be higher or lower than the voltage at HA. Current can flow into or out of LA."

## MAX5393LAUD+T
designator U?
Dual, Low-Voltage Digital Potentiometer with 3-Wire Serial SPI Control Interface, Volatile, Linear Taper, 256 Steps, -40 to 125 degC, 14-pin TSSOP (U14+1), Pb-Free, Tape and Reel; PartNumber: MAX5393LAUD+T; DatasheetVersion: Rev. 2; PackageVersion: Rev. L, 07/2010; PackageReference: U14+1; PackageDescription: 14-Pin Thin Shrink Small-Outline Package (U14+1), Body 5 x 4.4 mm, Pitch 0.65 mm; Supplier 1: Digi-Key; Supplier Part Number 1: MAX5393LAUD+T-ND; Supplier 2: Mouser; Supplier Part Number 2: 700-MAX5393LAUD+T; Applications: Low-Voltage Battery Applications, Portable Consumer; Control Interface: 3-Wire Serial SPI; Mounting Technology: Surface Mount; Code_JEDEC: MO-153; ComponentLink1Description: Manufacturer URL; ComponentLink1URL: http://www.maximintegrated.com/; ComponentLink2Description: Datasheet; ComponentLink2URL: http://datasheets.maximintegrated.com/en/ds/MAX5391-MAX5393.pdf; ComponentLink3Description: Package Specification; ComponentLink3URL: http://pdfserv.maximintegrated.com/package_dwgs/21-0066.PDF
footprint MAXM-U14+1_N (SOP, 14-Leads, Body 5x4.4mm, Pitch 0.65mm, IPC Medium Density)
footprint MAXM-U14+1_L (SOP, 14-Leads, Body 5x4.4mm, Pitch 0.65mm, IPC High Density)
footprint MAXM-U14+1_M (SOP, 14-Leads, Body 5x4.4mm, Pitch 0.65mm, IPC Low Density)
pins: 1 GND (power) "Ground", 2 LB "Resistor B Low Terminal. The voltage at LB can be higher or lower than the voltage at HB. Current can flow into or out of LB.", 3 HB "Resistor B High Terminal. The voltage at HB can be higher or lower than the voltage at LB. Current can flow into or out of HB.", 4 WB "Resistor B Wiper Terminal", 5 IC (power) "Internally Connected. Connect to GND.", 6 BYP "Internal Power-Supply Bypass. For additional charge-pump filtering, bypass to GND with a capacitor close to the device.", 7 ~{CS} (in) "Active-Low Chip-Select Input", 8 DIN (in) "Serial-Interface Data Input", 9 SCLK (in) "Serial-Interface Clock Input", 10 NC "No Connection. Not internally connected.", 11 VDD (power) "Power-Supply Input. Bypass VDD to GND with a 0.1uF capacitor close to the device.", 12 WA "Resistor A Wiper Terminal", 13 HA "Resistor A High Terminal. The voltage at HA can be higher or lower than the voltage at LA. Current can flow into or out of HA.", 14 LA "Resistor A Low Terminal. The voltage at LA can be higher or lower than the voltage at HA. Current can flow into or out of LA."

## MAX5393MAUD+
designator U?
Dual, Low-Voltage Digital Potentiometer with 3-Wire Serial SPI Control Interface, Volatile, Linear Taper, 256 Steps, -40 to 125 degC, 14-pin TSSOP (U14+1), Pb-Free; PartNumber: MAX5393MAUD+; DatasheetVersion: Rev. 2; PackageVersion: Rev. L, 07/2010; PackageReference: U14+1; PackageDescription: 14-Pin Thin Shrink Small-Outline Package (U14+1), Body 5 x 4.4 mm, Pitch 0.65 mm; Supplier 1: Digi-Key; Supplier Part Number 1: MAX5393MAUD+-ND; Supplier 2: Farnell; Supplier Part Number 2: 1811340; Supplier 3: Newark; Supplier Part Number 3: 60R4423; Supplier 4: Mouser; Supplier Part Number 4: 700-MAX5393MAUD+; Applications: Low-Voltage Battery Applications, Portable Consumer; Control Interface: 3-Wire Serial SPI; Mounting Technology: Surface Mount; Code_JEDEC: MO-153; ComponentLink1Description: Manufacturer URL; ComponentLink1URL: http://www.maximintegrated.com/; ComponentLink2Description: Datasheet; ComponentLink2URL: http://datasheets.maximintegrated.com/en/ds/MAX5391-MAX5393.pdf; ComponentLink3Description: Package Specification; ComponentLink3URL: http://pdfserv.maximintegrated.com/package_dwgs/21-0066.PDF
footprint MAXM-U14+1_N (SOP, 14-Leads, Body 5x4.4mm, Pitch 0.65mm, IPC Medium Density)
footprint MAXM-U14+1_L (SOP, 14-Leads, Body 5x4.4mm, Pitch 0.65mm, IPC High Density)
footprint MAXM-U14+1_M (SOP, 14-Leads, Body 5x4.4mm, Pitch 0.65mm, IPC Low Density)
pins: 1 GND (power) "Ground", 2 LB "Resistor B Low Terminal. The voltage at LB can be higher or lower than the voltage at HB. Current can flow into or out of LB.", 3 HB "Resistor B High Terminal. The voltage at HB can be higher or lower than the voltage at LB. Current can flow into or out of HB.", 4 WB "Resistor B Wiper Terminal", 5 IC (power) "Internally Connected. Connect to GND.", 6 BYP "Internal Power-Supply Bypass. For additional charge-pump filtering, bypass to GND with a capacitor close to the device.", 7 ~{CS} (in) "Active-Low Chip-Select Input", 8 DIN (in) "Serial-Interface Data Input", 9 SCLK (in) "Serial-Interface Clock Input", 10 NC "No Connection. Not internally connected.", 11 VDD (power) "Power-Supply Input. Bypass VDD to GND with a 0.1uF capacitor close to the device.", 12 WA "Resistor A Wiper Terminal", 13 HA "Resistor A High Terminal. The voltage at HA can be higher or lower than the voltage at LA. Current can flow into or out of HA.", 14 LA "Resistor A Low Terminal. The voltage at LA can be higher or lower than the voltage at HA. Current can flow into or out of LA."

## MAX5393MAUD+T
designator U?
Dual, Low-Voltage Digital Potentiometer with 3-Wire Serial SPI Control Interface, Volatile, Linear Taper, 256 Steps, -40 to 125 degC, 14-pin TSSOP (U14+1), Pb-Free, Tape and Reel; PartNumber: MAX5393MAUD+T; DatasheetVersion: Rev. 2; PackageVersion: Rev. L, 07/2010; PackageReference: U14+1; PackageDescription: 14-Pin Thin Shrink Small-Outline Package (U14+1), Body 5 x 4.4 mm, Pitch 0.65 mm; Supplier 1: Digi-Key; Supplier Part Number 1: MAX5393MAUD+T-ND; Supplier 2: Mouser; Supplier Part Number 2: 700-MAX5393MAUD+T; Applications: Low-Voltage Battery Applications, Portable Consumer; Control Interface: 3-Wire Serial SPI; Mounting Technology: Surface Mount; Code_JEDEC: MO-153; ComponentLink1Description: Manufacturer URL; ComponentLink1URL: http://www.maximintegrated.com/; ComponentLink2Description: Datasheet; ComponentLink2URL: http://datasheets.maximintegrated.com/en/ds/MAX5391-MAX5393.pdf; ComponentLink3Description: Package Specification; ComponentLink3URL: http://pdfserv.maximintegrated.com/package_dwgs/21-0066.PDF
footprint MAXM-U14+1_N (SOP, 14-Leads, Body 5x4.4mm, Pitch 0.65mm, IPC Medium Density)
footprint MAXM-U14+1_L (SOP, 14-Leads, Body 5x4.4mm, Pitch 0.65mm, IPC High Density)
footprint MAXM-U14+1_M (SOP, 14-Leads, Body 5x4.4mm, Pitch 0.65mm, IPC Low Density)
pins: 1 GND (power) "Ground", 2 LB "Resistor B Low Terminal. The voltage at LB can be higher or lower than the voltage at HB. Current can flow into or out of LB.", 3 HB "Resistor B High Terminal. The voltage at HB can be higher or lower than the voltage at LB. Current can flow into or out of HB.", 4 WB "Resistor B Wiper Terminal", 5 IC (power) "Internally Connected. Connect to GND.", 6 BYP "Internal Power-Supply Bypass. For additional charge-pump filtering, bypass to GND with a capacitor close to the device.", 7 ~{CS} (in) "Active-Low Chip-Select Input", 8 DIN (in) "Serial-Interface Data Input", 9 SCLK (in) "Serial-Interface Clock Input", 10 NC "No Connection. Not internally connected.", 11 VDD (power) "Power-Supply Input. Bypass VDD to GND with a 0.1uF capacitor close to the device.", 12 WA "Resistor A Wiper Terminal", 13 HA "Resistor A High Terminal. The voltage at HA can be higher or lower than the voltage at LA. Current can flow into or out of HA.", 14 LA "Resistor A Low Terminal. The voltage at LA can be higher or lower than the voltage at HA. Current can flow into or out of LA."

## MAX5393NAUD+
designator U?
Dual, Low-Voltage Digital Potentiometer with 3-Wire Serial SPI Control Interface, Volatile, Linear Taper, 256 Steps, -40 to 125 degC, 14-pin TSSOP (U14+1), Pb-Free; PartNumber: MAX5393NAUD+; DatasheetVersion: Rev. 2; PackageVersion: Rev. L, 07/2010; PackageReference: U14+1; PackageDescription: 14-Pin Thin Shrink Small-Outline Package (U14+1), Body 5 x 4.4 mm, Pitch 0.65 mm; Supplier 1: Digi-Key; Supplier Part Number 1: MAX5393NAUD+-ND; Supplier 2: Farnell; Supplier Part Number 2: 1811341; Supplier 3: Newark; Supplier Part Number 3: 60R4425; Supplier 4: Mouser; Supplier Part Number 4: 700-MAX5393NAUD+; Applications: Low-Voltage Battery Applications, Portable Consumer; Control Interface: 3-Wire Serial SPI; Mounting Technology: Surface Mount; Code_JEDEC: MO-153; ComponentLink1Description: Manufacturer URL; ComponentLink1URL: http://www.maximintegrated.com/; ComponentLink2Description: Datasheet; ComponentLink2URL: http://datasheets.maximintegrated.com/en/ds/MAX5391-MAX5393.pdf; ComponentLink3Description: Package Specification; ComponentLink3URL: http://pdfserv.maximintegrated.com/package_dwgs/21-0066.PDF
footprint MAXM-U14+1_N (SOP, 14-Leads, Body 5x4.4mm, Pitch 0.65mm, IPC Medium Density)
footprint MAXM-U14+1_L (SOP, 14-Leads, Body 5x4.4mm, Pitch 0.65mm, IPC High Density)
footprint MAXM-U14+1_M (SOP, 14-Leads, Body 5x4.4mm, Pitch 0.65mm, IPC Low Density)
pins: 1 GND (power) "Ground", 2 LB "Resistor B Low Terminal. The voltage at LB can be higher or lower than the voltage at HB. Current can flow into or out of LB.", 3 HB "Resistor B High Terminal. The voltage at HB can be higher or lower than the voltage at LB. Current can flow into or out of HB.", 4 WB "Resistor B Wiper Terminal", 5 IC (power) "Internally Connected. Connect to GND.", 6 BYP "Internal Power-Supply Bypass. For additional charge-pump filtering, bypass to GND with a capacitor close to the device.", 7 ~{CS} (in) "Active-Low Chip-Select Input", 8 DIN (in) "Serial-Interface Data Input", 9 SCLK (in) "Serial-Interface Clock Input", 10 NC "No Connection. Not internally connected.", 11 VDD (power) "Power-Supply Input. Bypass VDD to GND with a 0.1uF capacitor close to the device.", 12 WA "Resistor A Wiper Terminal", 13 HA "Resistor A High Terminal. The voltage at HA can be higher or lower than the voltage at LA. Current can flow into or out of HA.", 14 LA "Resistor A Low Terminal. The voltage at LA can be higher or lower than the voltage at HA. Current can flow into or out of LA."